# Altium footprint library Lib.PcbLib: 4 footprints
Each footprint in its own frame and in the unit in brackets; x right, y up, seen from the top. Pads: shape width x height; smd on the part's side, far side on the other; paste and mask are expansions set on the pad; w line width, h text height; cw(c..) or ccw(c..) is an arc to the next point about the centre after c.
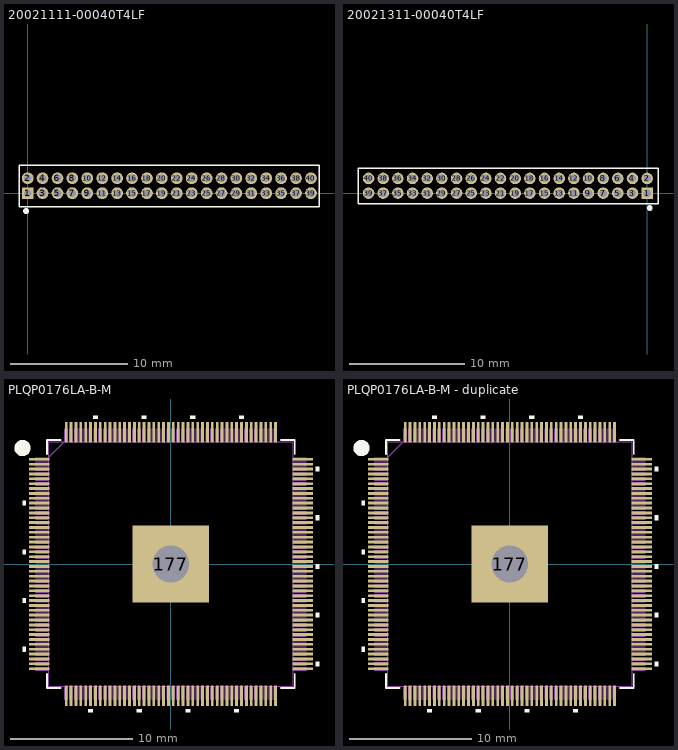
[diagram p0: the footprints below, top view; thin cyan lines are the x and y axes]

## 20021111-00040T4LF [mm]
pads (40):
  rect 1x1 hole 0.65: 1(0,0)
  round 1 hole 0.65: 2(0,1.27) 3(1.27,0) 4(1.27,1.27) 5(2.54,0) 6(2.54,1.27) 7(3.81,0) 8(3.81,1.27) 9(5.08,0) 10(5.08,1.27) 11(6.35,0) 12(6.35,1.27) 13(7.62,0) 14(7.62,1.27) 15(8.89,0) 16(8.89,1.27) 17(10.16,0) 18(10.16,1.27) 19(11.43,0) 20(11.43,1.27) 21(12.7,0) 22(12.7,1.27) 23(13.97,0) 24(13.97,1.27) 25(15.24,0) 26(15.24,1.27) 27(16.51,0) 28(16.51,1.27) 29(17.78,0) 30(17.78,1.27) 31(19.05,0) 32(19.05,1.27) 33(20.32,0) 34(20.32,1.27) 35(21.59,0) 36(21.59,1.27) 37(22.86,0) 38(22.86,1.27) 39(24.13,0) 40(24.13,1.27)
Top Overlay:
  circle w0.254: c-0.127,-1.524 r0.13
  lines w0.127: -0.737,-1.143 -0.66,-1.143 24.816,-1.143 24.816,2.362 -0.737,2.362 -0.737,-1.143
3D body "20021111-00040XXLFc.stp": height 5.5, standoff -2.35, extent -0.66,-1.092 24.74,2.308

## 20021311-00040T4LF [mm]
pads (40):
  rect 1x1 hole 0.65: 1(0,0)
  round 1 hole 0.65: 2(0,1.27) 3(-1.27,0) 4(-1.27,1.27) 5(-2.54,0) 6(-2.54,1.27) 7(-3.81,0) 8(-3.81,1.27) 9(-5.08,0) 10(-5.08,1.27) 11(-6.35,0) 12(-6.35,1.27) 13(-7.62,0) 14(-7.62,1.27) 15(-8.89,0) 16(-8.89,1.27) 17(-10.16,0) 18(-10.16,1.27) 19(-11.43,0) 20(-11.43,1.27) 21(-12.7,0) 22(-12.7,1.27) 23(-13.97,0) 24(-13.97,1.27) 25(-15.24,0) 26(-15.24,1.27) 27(-16.51,0) 28(-16.51,1.27) 29(-17.78,0) 30(-17.78,1.27) 31(-19.05,0) 32(-19.05,1.27) 33(-20.32,0) 34(-20.32,1.27) 35(-21.59,0) 36(-21.59,1.27) 37(-22.86,0) 38(-22.86,1.27) 39(-24.13,0) 40(-24.13,1.27)
Top Overlay:
  lines w0.127: -25.044,-0.94 -24.994,-0.94 0.94,-0.94 0.94,2.134 -25.044,2.134 -25.044,-0.94
  lines w0.254: 0.356,-1.295 cw(c0.229,-1.295) 0.355,-1.287
3D body "20021311-0040XXLFc.stp": height 4.4, standoff -2.3, extent -24.969,-0.916 0.891,2.084

## PLQP0176LA-B-M [mil]
pads (177):
  rect 66x9 smd paste+0 mask+0: 1(-426,338.58) 2(-426,322.83) 3(-426,307.09) 4(-426,291.34) 5(-426,275.59) 6(-426,259.84) 7(-426,244.09) 8(-426,228.35) 9(-426,212.6) 10(-426,196.85) 11(-426,181.1) 12(-426,165.35) 13(-426,149.61) 14(-426,133.86) 15(-426,118.11) 16(-426,102.36) 17(-426,86.61) 18(-426,70.87) 19(-426,55.12) 20(-426,39.37) 21(-426,23.62) 22(-426,7.87) 23(-426,-7.87) 24(-426,-23.62) 25(-426,-39.37) 26(-426,-55.12) 27(-426,-70.87) 28(-426,-86.61) 29(-426,-102.36) 30(-426,-118.11) 31(-426,-133.86) 32(-426,-149.61) 33(-426,-165.35) 34(-426,-181.1) 35(-426,-196.85) 36(-426,-212.6) 37(-426,-228.35) 38(-426,-244.09) 39(-426,-259.84) 40(-426,-275.59) 41(-426,-291.34) 42(-426,-307.09) 43(-426,-322.83) 44(-426,-338.58) 89(426,-338.58) 90(426,-322.83) 91(426,-307.09) 92(426,-291.34) 93(426,-275.59) 94(426,-259.84) 95(426,-244.09) 96(426,-228.35) 97(426,-212.6) 98(426,-196.85) 99(426,-181.1) 100(426,-165.35) 101(426,-149.61) 102(426,-133.86) 103(426,-118.11) 104(426,-102.36) 105(426,-86.61) 106(426,-70.87) 107(426,-55.12) 108(426,-39.37) 109(426,-23.62) 110(426,-7.87) 111(426,7.87) 112(426,23.62) 113(426,39.37) 114(426,55.12) 115(426,70.87) 116(426,86.61) 117(426,102.36) 118(426,118.11) 119(426,133.86) 120(426,149.61) 121(426,165.35) 122(426,181.1) 123(426,196.85) 124(426,212.6) 125(426,228.35) 126(426,244.09) 127(426,259.84) 128(426,275.59) 129(426,291.34) 130(426,307.09) 131(426,322.83) 132(426,338.58)
  rect 9x66 smd paste+0 mask+0: 45(-338.58,-426) 46(-322.83,-426) 47(-307.09,-426) 48(-291.34,-426) 49(-275.59,-426) 50(-259.84,-426) 51(-244.09,-426) 52(-228.35,-426) 53(-212.6,-426) 54(-196.85,-426) 55(-181.1,-426) 56(-165.35,-426) 57(-149.61,-426) 58(-133.86,-426) 59(-118.11,-426) 60(-102.36,-426) 61(-86.61,-426) 62(-70.87,-426) 63(-55.12,-426) 64(-39.37,-426) 65(-23.62,-426) 66(-7.87,-426) 67(7.87,-426) 68(23.62,-426) 69(39.37,-426) 70(55.12,-426) 71(70.87,-426) 72(86.61,-426) 73(102.36,-426) 74(118.11,-426) 75(133.86,-426) 76(149.61,-426) 77(165.35,-426) 78(181.1,-426) 79(196.85,-426) 80(212.6,-426) 81(228.35,-426) 82(244.09,-426) 83(259.84,-426) 84(275.59,-426) 85(291.34,-426) 86(307.09,-426) 87(322.83,-426) 88(338.58,-426) 133(338.58,426) 134(322.83,426) 135(307.09,426) 136(291.34,426) 137(275.59,426) 138(259.84,426) 139(244.09,426) 140(228.35,426) 141(212.6,426) 142(196.85,426) 143(181.1,426) 144(165.35,426) 145(149.61,426) 146(133.86,426) 147(118.11,426) 148(102.36,426) 149(86.61,426) 150(70.87,426) 151(55.12,426) 152(39.37,426) 153(23.62,426) 154(7.87,426) 155(-7.87,426) 156(-23.62,426) 157(-39.37,426) 158(-55.12,426) 159(-70.87,426) 160(-86.61,426) 161(-102.36,426) 162(-118.11,426) 163(-133.86,426) 164(-149.61,426) 165(-165.35,426) 166(-181.1,426) 167(-196.85,426) 168(-212.6,426) 169(-228.35,426) 170(-244.09,426) 171(-259.84,426) 172(-275.59,426) 173(-291.34,426) 174(-307.09,426) 175(-322.83,426) 176(-338.58,426)
  rect 248.03x248.03 hole 118.11: 177(0,0)
Top Overlay:
  circle w30: c-480,375 r11.18
  region: -236.59,469 -251.59,469 -251.59,479 -236.59,479
  region: -79.11,469 -94.11,469 -94.11,479 -79.11,479
  region: 78.37,469 63.37,469 63.37,479 78.37,479
  region: 235.85,469 220.85,469 220.85,479 235.85,479
  region: 469,314.59 479,314.59 479,299.59 469,299.59
  region: 469,157.11 479,157.11 479,142.11 469,142.11
  region: 469,-0.37 479,-0.37 479,-15.37 469,-15.37
  region: 469,-157.85 479,-157.85 479,-172.85 469,-172.85
  region: 469,-315.33 479,-315.33 479,-330.33 469,-330.33
  region: 220.1,-469 205.1,-469 205.1,-479 220.1,-479
  region: 62.62,-469 47.62,-469 47.62,-479 62.62,-479
  region: -94.86,-469 -109.86,-469 -109.86,-479 -94.86,-479
  region: -252.34,-469 -267.34,-469 -267.34,-479 -252.34,-479
  region: -469,-268.09 -479,-268.09 -479,-283.09 -469,-283.09
  region: -469,-110.61 -479,-110.61 -479,-125.61 -469,-125.61
  region: -469,46.87 -479,46.87 -479,31.87 -469,31.87
  region: -469,204.35 -479,204.35 -479,189.35 -469,189.35
  lines w6: -400.5,-356.18 -400.5,-400.5 -356.18,-400.5 ; -400.5,356.18 -400.5,400.5 -356.18,400.5 ; 356.18,-400.5 400.5,-400.5 400.5,-356.18 ; 356.18,400.5 400.5,400.5 400.5,356.18
Mechanical 13:
  drawing of 709 lines, arcs and shapes, not listed
  text "*" at -393,321.46 h50
3D body "PLQP0176LA-B-M.stp": height 67.09, standoff 0, extent -437,-437 437.01,437.01

## PLQP0176LA-B-M - duplicate [mil]
pads (177):
  rect 66x9 smd paste+0 mask+0: 1(-426,338.58) 2(-426,322.83) 3(-426,307.09) 4(-426,291.34) 5(-426,275.59) 6(-426,259.84) 7(-426,244.09) 8(-426,228.35) 9(-426,212.6) 10(-426,196.85) 11(-426,181.1) 12(-426,165.35) 13(-426,149.61) 14(-426,133.86) 15(-426,118.11) 16(-426,102.36) 17(-426,86.61) 18(-426,70.87) 19(-426,55.12) 20(-426,39.37) 21(-426,23.62) 22(-426,7.87) 23(-426,-7.87) 24(-426,-23.62) 25(-426,-39.37) 26(-426,-55.12) 27(-426,-70.87) 28(-426,-86.61) 29(-426,-102.36) 30(-426,-118.11) 31(-426,-133.86) 32(-426,-149.61) 33(-426,-165.35) 34(-426,-181.1) 35(-426,-196.85) 36(-426,-212.6) 37(-426,-228.35) 38(-426,-244.09) 39(-426,-259.84) 40(-426,-275.59) 41(-426,-291.34) 42(-426,-307.09) 43(-426,-322.83) 44(-426,-338.58) 89(426,-338.58) 90(426,-322.83) 91(426,-307.09) 92(426,-291.34) 93(426,-275.59) 94(426,-259.84) 95(426,-244.09) 96(426,-228.35) 97(426,-212.6) 98(426,-196.85) 99(426,-181.1) 100(426,-165.35) 101(426,-149.61) 102(426,-133.86) 103(426,-118.11) 104(426,-102.36) 105(426,-86.61) 106(426,-70.87) 107(426,-55.12) 108(426,-39.37) 109(426,-23.62) 110(426,-7.87) 111(426,7.87) 112(426,23.62) 113(426,39.37) 114(426,55.12) 115(426,70.87) 116(426,86.61) 117(426,102.36) 118(426,118.11) 119(426,133.86) 120(426,149.61) 121(426,165.35) 122(426,181.1) 123(426,196.85) 124(426,212.6) 125(426,228.35) 126(426,244.09) 127(426,259.84) 128(426,275.59) 129(426,291.34) 130(426,307.09) 131(426,322.83) 132(426,338.58)
  rect 9x66 smd paste+0 mask+0: 45(-338.58,-426) 46(-322.83,-426) 47(-307.09,-426) 48(-291.34,-426) 49(-275.59,-426) 50(-259.84,-426) 51(-244.09,-426) 52(-228.35,-426) 53(-212.6,-426) 54(-196.85,-426) 55(-181.1,-426) 56(-165.35,-426) 57(-149.61,-426) 58(-133.86,-426) 59(-118.11,-426) 60(-102.36,-426) 61(-86.61,-426) 62(-70.87,-426) 63(-55.12,-426) 64(-39.37,-426) 65(-23.62,-426) 66(-7.87,-426) 67(7.87,-426) 68(23.62,-426) 69(39.37,-426) 70(55.12,-426) 71(70.87,-426) 72(86.61,-426) 73(102.36,-426) 74(118.11,-426) 75(133.86,-426) 76(149.61,-426) 77(165.35,-426) 78(181.1,-426) 79(196.85,-426) 80(212.6,-426) 81(228.35,-426) 82(244.09,-426) 83(259.84,-426) 84(275.59,-426) 85(291.34,-426) 86(307.09,-426) 87(322.83,-426) 88(338.58,-426) 133(338.58,426) 134(322.83,426) 135(307.09,426) 136(291.34,426) 137(275.59,426) 138(259.84,426) 139(244.09,426) 140(228.35,426) 141(212.6,426) 142(196.85,426) 143(181.1,426) 144(165.35,426) 145(149.61,426) 146(133.86,426) 147(118.11,426) 148(102.36,426) 149(86.61,426) 150(70.87,426) 151(55.12,426) 152(39.37,426) 153(23.62,426) 154(7.87,426) 155(-7.87,426) 156(-23.62,426) 157(-39.37,426) 158(-55.12,426) 159(-70.87,426) 160(-86.61,426) 161(-102.36,426) 162(-118.11,426) 163(-133.86,426) 164(-149.61,426) 165(-165.35,426) 166(-181.1,426) 167(-196.85,426) 168(-212.6,426) 169(-228.35,426) 170(-244.09,426) 171(-259.84,426) 172(-275.59,426) 173(-291.34,426) 174(-307.09,426) 175(-322.83,426) 176(-338.58,426)
  rect 248.03x248.03 hole 118.11: 177(0,0)
Top Overlay:
  circle w30: c-480,375 r11.18
  region: -236.59,469 -251.59,469 -251.59,479 -236.59,479
  region: -79.11,469 -94.11,469 -94.11,479 -79.11,479
  region: 78.37,469 63.37,469 63.37,479 78.37,479
  region: 235.85,469 220.85,469 220.85,479 235.85,479
  region: 469,314.59 479,314.59 479,299.59 469,299.59
  region: 469,157.11 479,157.11 479,142.11 469,142.11
  region: 469,-0.37 479,-0.37 479,-15.37 469,-15.37
  region: 469,-157.85 479,-157.85 479,-172.85 469,-172.85
  region: 469,-315.33 479,-315.33 479,-330.33 469,-330.33
  region: 220.1,-469 205.1,-469 205.1,-479 220.1,-479
  region: 62.62,-469 47.62,-469 47.62,-479 62.62,-479
  region: -94.86,-469 -109.86,-469 -109.86,-479 -94.86,-479
  region: -252.34,-469 -267.34,-469 -267.34,-479 -252.34,-479
  region: -469,-268.09 -479,-268.09 -479,-283.09 -469,-283.09
  region: -469,-110.61 -479,-110.61 -479,-125.61 -469,-125.61
  region: -469,46.87 -479,46.87 -479,31.87 -469,31.87
  region: -469,204.35 -479,204.35 -479,189.35 -469,189.35
  lines w6: -400.5,-356.18 -400.5,-400.5 -356.18,-400.5 ; -400.5,356.18 -400.5,400.5 -356.18,400.5 ; 356.18,-400.5 400.5,-400.5 400.5,-356.18 ; 356.18,400.5 400.5,400.5 400.5,356.18
Mechanical 13:
  drawing of 709 lines, arcs and shapes, not listed
  text "*" at -393,321.46 h50